# Altium footprint library PCB - CONNECTOR - AMPHENOL 031543110RFX.PcbLib: 1 footprints
Each footprint in its own frame and in the unit in brackets; x right, y up, seen from the top. Pads: shape width x height; smd on the part's side, far side on the other; paste and mask are expansions set on the pad; w line width, h text height; cw(c..) or ccw(c..) is an arc to the next point about the centre after c.
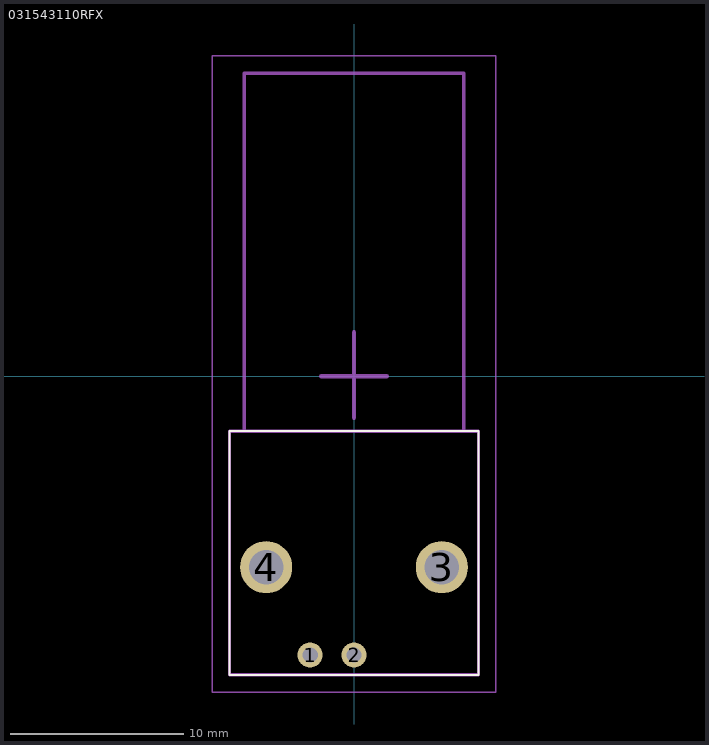
[diagram p0: the footprint, top view; thin cyan lines are the x and y axes]

## 031543110RFX [mm]
pads (4):
  round 1.446 hole 0.89: 1(-2.54,-16.129) 2(0,-16.129)
  round 3.015 hole 2.01: 3(5.08,-11.049) 4(-5.08,-11.049)
Top Overlay:
  lines w0.1: -7.2,-17.279 -7.2,-3.179 7.2,-3.179 7.2,-17.279 -7.2,-17.279
Top Assembly:
  lines w0.2: -6.35,-3.179 -6.35,17.521 6.35,17.521 6.35,-3.179 ; -7.2,-17.279 -7.2,-3.179 7.2,-3.179 7.2,-17.279 -7.2,-17.279
Top Courtyard:
  lines w0.1: -8.2,-18.279 -8.2,18.521 8.2,18.521 8.2,-18.279 -8.2,-18.279
Top Designator:
  text ".Designator" at -6.477,18.796 h1.52
Top Component Center:
  lines w0.254: -1.905,0 0,0 0,2.54 0,-2.413 ; 0.064,0 1.905,0
3D body "031-5431-10RFX.stp": height 16.18, standoff -3.66, extent -7.2,-17.279 7.2,17.521